# EAGLE library part 629004113921 (library Wurth_Elektronik_Electromechanic_Input-Output_Connectors_rev16b)
WR-COM Plug SMT With Clip USB Type A,4 pins=>Code : Con_I-O_COM_USB-2.0_A_629004113921 <http://katalog.we-online.de/media/images/v2/Family_WR-COM_629004113921.jpg> Details see: http://katalog.we-online.de/en/em/629_004_113_921 Created 2014-07-09, Karrer Zheng 2014 (C) Würth Elektronik
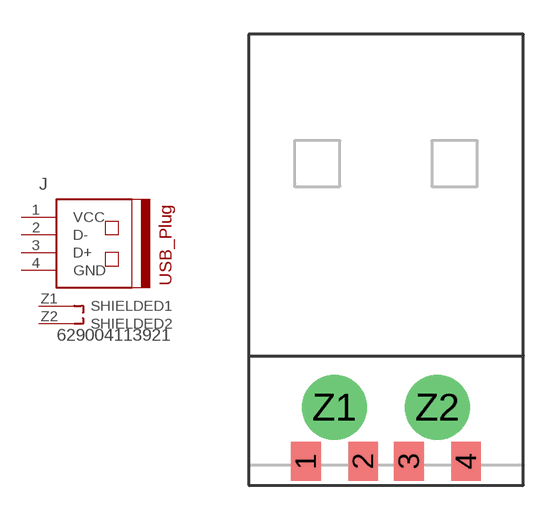
[diagram p67: symbol with the pads of 629004113921; footprint 629004113921]

Designator prefix J

## 629004113921  [629004113921]
1  VCC  pas
2  D-  pas
3  D+  pas
4  GND  pas
Z1  SHIELDED1
Z2  SHIELDED2

## Footprint 629004113921 (pad centres in mm)
WR-COM Plug SMT With Clip USB Type A, 4 pins
smd 1.3 x 1.7: 1 -3.5,0; 2 -1,0; 3 1,0; 4 3.5,0
drill 1.9: Z1 -2.25,2.35; Z2 2.25,2.35